# Altium schematic symbol library 2N3819.SchLib: 1 symbol
Pins are listed as number, name and electrical type; pins without a type are passive.

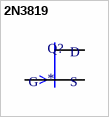
[diagram p0: symbol 2N3819]

## 2N3819
designator Q?
RF Mosfet N-Channel JFET TO-92 (TO-226); MF: ON Semiconductor; MP: 2N3819; Price: None; Check_prices: https://www.snapeda.com/parts/2N3819/Onsemi/view-part/?ref=eda; Purchase-URL: https://pricing.snapeda.com/search/part/2N3819/?ref=eda; Package: E-PKG AXIAL-LEADED-2 ON Semiconductor; SnapEDA_Link: https://www.snapeda.com/parts/2N3819/Onsemi/view-part/?ref=snap; Availability: In Stock; Value: *
footprint TO92127P478H483-3
pins: 1 S, 2 G, 3 D